# EAGLE library part SELECTOR-2_LANES (library p.peter-logic)
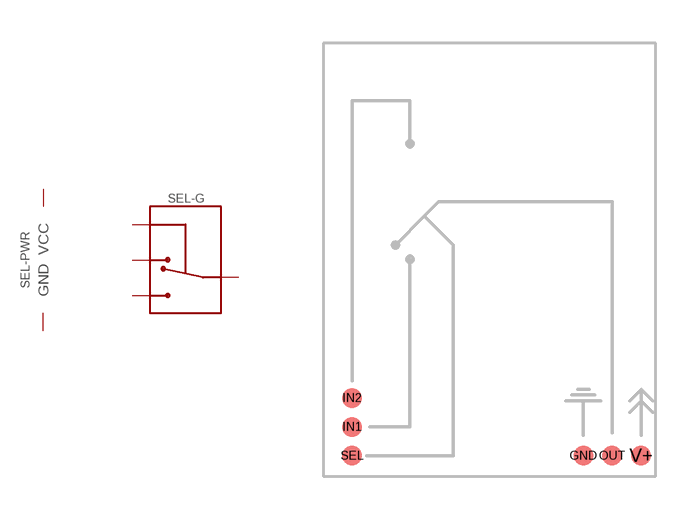
[diagram p2: symbol with the pads of SELECTOR-2-LANE-NOMUX; footprint SELECTOR-2-LANE-NOMUX]

Designator prefix SEL; gates -G=SELECTOR-2_LANES-MUXED -PWR=GENERIC-PWR

## SELECTOR-2_LANES  [SELECTOR-2-LANE-NOMUX]
GND  -PWR:GND
IN1  -G:IN1
IN2  -G:IN2
OUT  -G:OUT
SEL  -G:SEL
V+  -PWR:VCC

## Footprint SELECTOR-2-LANE-NOMUX (pad centres in mm)
smd 0.7 x 0.7: GND 9,0.7; IN1 1,1.7; IN2 1,2.7; OUT 10,0.7; SEL 1,0.7; V+ 11,0.7